# Altium footprint library Resistors_imp.PCBLIB: 12 footprints
Each footprint in its own frame and in the unit in brackets; x right, y up, seen from the top. Pads: shape width x height; smd on the part's side, far side on the other; paste and mask are expansions set on the pad; w line width, h text height; cw(c..) or ccw(c..) is an arc to the next point about the centre after c.
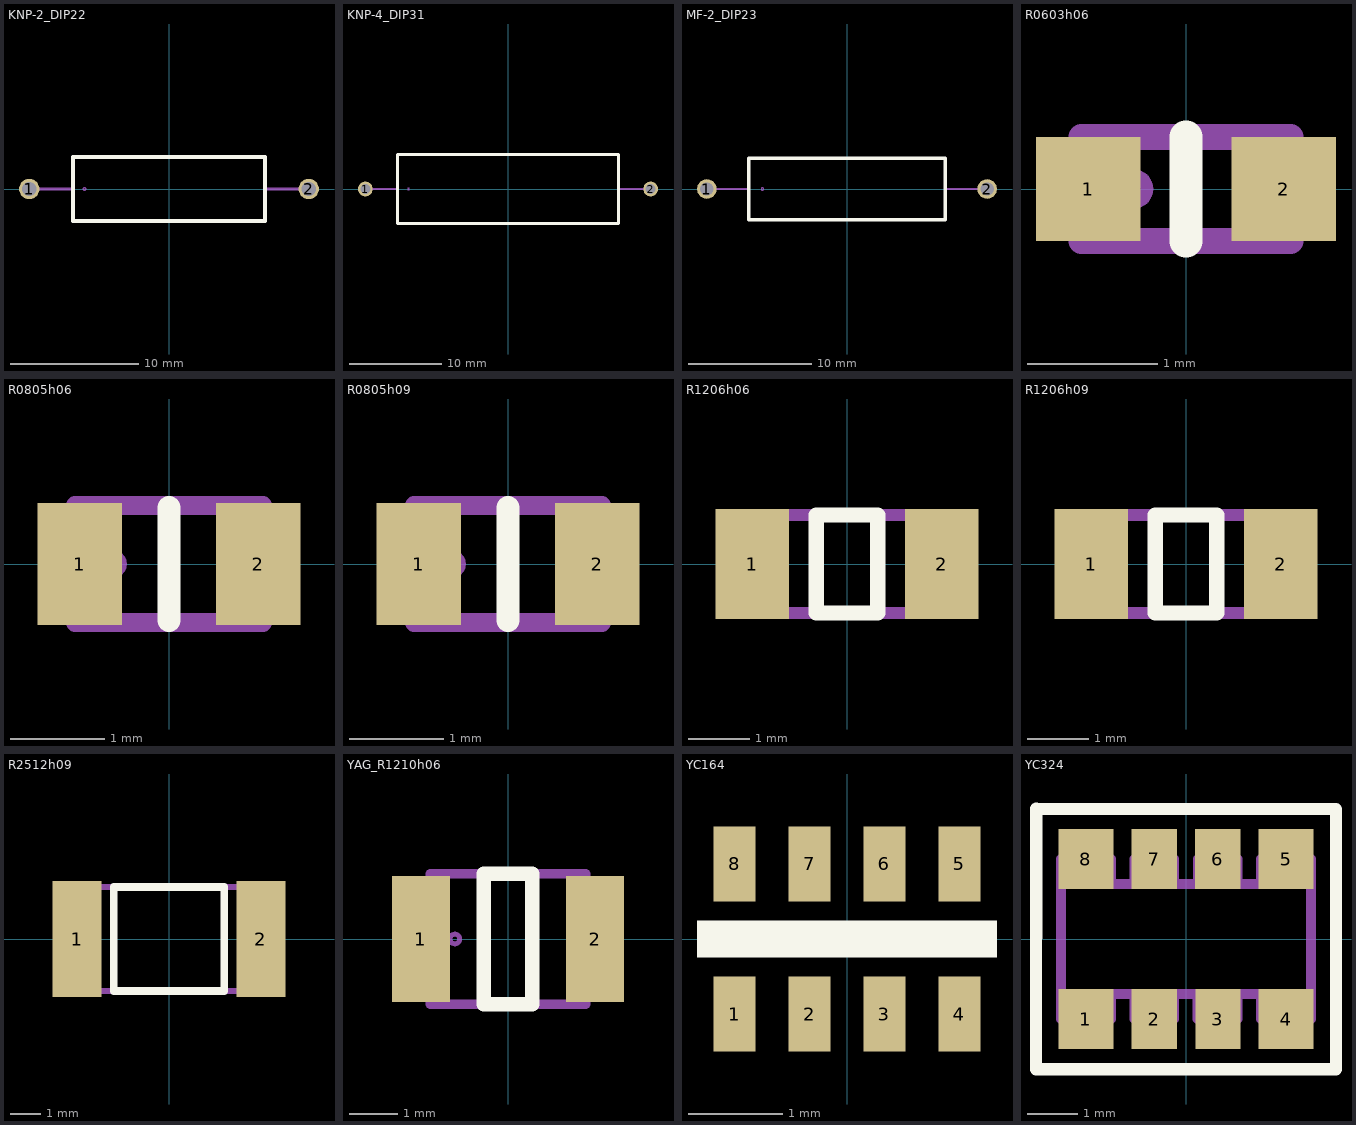
[diagram p0: the footprints below, top view; thin cyan lines are the x and y axes]

## KNP-2_DIP22 [mm]
height 5
pads (2):
  round 1.6 hole 1.1: 1(-10.922,0) 2(10.922,0)
Top Overlay:
  lines w0.3: -7.5,-2.5 7.5,-2.5 7.5,2.5 -7.5,2.5 -7.5,-2.5
Mechanical 1:
  circle w0.1: c-6.6,0 r0.1
  lines w0.2: -11,0 -7.5,0 ; 7.5,0 11,0 ; -7.5,-2.5 -7.5,2.5 7.5,2.5 7.5,-2.5 -7.5,-2.5
  text ".Designator" at -2.5,0 h1.5
3D body "KNP-2.STEP": height 5, standoff -2.5, extent -11.4,-2.5 11.4,2.5

## KNP-4_DIP31 [mm]
height 7.5
pads (2):
  round 1.6 hole 1.1: 1(-15.494,0) 2(15.494,0)
Top Overlay:
  lines w0.3: -12,-3.75 12,-3.75 12,3.75 -12,3.75 -12,-3.75
Mechanical 1:
  circle w0.1: c-10.8,0 r0.1
  lines w0.2: -15.5,0 -12,0 ; 12,0 15.5,0 ; -12,-3.75 -12,3.75 12,3.75 12,-3.75 -12,-3.75
  text ".Designator" at -2.5,0 h1.5
3D body "KNP-4.STEP": height 7.5, standoff -1.25, extent -15.9,-3.75 15.9,3.75

## MF-2_DIP23 [mm]
height 5
pads (2):
  round 1.6 hole 1.1: 1(-11.43,0) 2(11.43,0)
Top Overlay:
  lines w0.3: -8,-2.5 8,-2.5 8,2.5 -8,2.5 -8,-2.5
Mechanical 1:
  circle w0.1: c-6.9,0 r0.1
  lines w0.2: -11.5,0 -8,0 ; 8,0 11.5,0 ; -8,-2.5 -8,2.5 8,2.5 8,-2.5 -8,-2.5
  text ".Designator" at -2.5,0 h1.5
3D body "MF-2.STEP": height 5, standoff -2.5, extent -11.9,-2.5 11.9,2.5

## R0603h06 [mm]
height 0.6
pads (2):
  rect 0.8x0.8 smd: 1(-0.75,0) 2(0.75,0)
Top Overlay:
  lines w0.25: 0,-0.4 0,0.4
Mechanical 1:
  circle w0.1: c-0.4,0 r0.1
  lines w0.2: -0.8,-0.4 0.8,-0.4 0.8,0.4 -0.8,0.4 -0.8,-0.4
  text ".Designator" at -0.7,0.6 h1.5
3D body "R0603h06.stp": height 0.6, standoff 0, extent -0.85,-0.45 0.85,0.45

## R0805h06 [mm]
height 0.6
pads (2):
  rect 0.9x1.3 smd: 1(-0.95,0) 2(0.95,0)
Top Overlay:
  lines w0.25: 0,-0.6 0,0.6
Mechanical 1:
  circle w0.1: c-0.6,0 r0.1
  lines w0.2: -1,-0.625 -1,0.625 1,0.625 1,-0.625 -1,-0.625
  text ".Designator" at -0.9,1 h1.5
3D body "R0805h06.stp": height 0.6, standoff 0, extent -1.05,-0.675 1.05,0.675

## R0805h09 [mm]
height 0.9
pads (2):
  rect 0.9x1.3 smd: 1(-0.95,0) 2(0.95,0)
Top Overlay:
  lines w0.25: 0,-0.6 0,0.6
Mechanical 1:
  circle w0.1: c-0.6,0 r0.1
  lines w0.2: -1,-0.625 1,-0.625 1,0.625 -1,0.625 -1,-0.625
  text ".Designator" at -0.8,1 h1.5
3D body "R0805h09.stp": height 0.9, standoff 0, extent -1.05,-0.675 1.05,0.675

## R1206h06 [mm]
height 0.6
pads (2):
  rect 1.2x1.8 smd: 1(-1.55,0) 2(1.55,0)
Top Overlay:
  lines w0.25: -0.5,-0.8 0.5,-0.8 0.5,0.8 -0.5,0.8 -0.5,-0.8
Mechanical 1:
  circle w0.1: c-1.1,0 r0.1
  lines w0.2: -1.6,-0.8 1.6,-0.8 1.6,0.8 -1.6,0.8 -1.6,-0.8
  text ".Designator" at -1.4,1.2 h1.5
3D body "R1206h06.stp": height 0.6, standoff 0, extent -1.675,-0.9 1.675,0.9

## R1206h09 [mm]
height 0.9
pads (2):
  rect 1.2x1.8 smd: 1(-1.55,0) 2(1.55,0)
Top Overlay:
  lines w0.25: -0.5,-0.8 0.5,-0.8 0.5,0.8 -0.5,0.8 -0.5,-0.8
Mechanical 1:
  circle w0.1: c-1.1,0 r0.1
  lines w0.2: -1.6,-0.8 1.6,-0.8 1.6,0.8 -1.6,0.8 -1.6,-0.8
  text ".Designator" at -1.2,1.2 h1.5
3D body "R1206h09.stp": height 0.9, standoff 0, extent -1.675,-0.9 1.675,0.9

## R2512h09 [mm]
height 0.9
pads (2):
  rect 1.6x3.8 smd: 1(-3,0) 2(3,0)
Top Overlay:
  lines w0.25: -1.8,-1.7 1.8,-1.7 1.8,1.7 -1.8,1.7 -1.8,-1.7
Mechanical 1:
  circle w0.1: c-2.6,0 r0.1
  lines w0.2: -3.3,-1.7 -3.3,1.7 3.3,1.7 3.3,-1.7 -3.3,-1.7
  text ".Designator" at -1.4,2.4 h1.5
3D body "R2512h09.stp": height 0.9, standoff 0, extent -3.3,-1.7 3.3,1.7

## YAG_R1210h06 [mm]
height 0.6
pads (2):
  rect 1.2x2.6 smd: 1(-1.8,0) 2(1.8,0)
Top Overlay:
  lines w0.3: -0.5,-1.35 0.5,-1.35 0.5,1.35 -0.5,1.35 -0.5,-1.35
Mechanical 1:
  circle w0.1: c-1.1,0 r0.1
  lines w0.2: -1.6,-1.35 1.6,-1.35 1.6,1.35 -1.6,1.35 -1.6,-1.35
  text ".Designator" at -1.4,1.6 h1.5
3D body "R1206h06.stp": height 0.6, standoff 0, extent -1.675,-0.9 1.675,0.9

## YC164 [mm]
pads (8):
  rect 0.45x0.8 smd: 1(-1.2,-0.8) 2(-0.4,-0.8) 3(0.4,-0.8) 4(1.2,-0.8) 5(1.2,0.8) 6(0.4,0.8) 7(-0.4,0.8) 8(-1.2,0.8)
Top Overlay:
  rectangle: -1.6,-0.2 1.6,0.2
3D body "User Library-RN164P.step": height 0.56, standoff 0.01, extent -1.6,-0.8 1.6,0.8

## YC324 [mm]
height 0.6
pads (8):
  rect 1.1x1.2 smd: 1(-2,-1.6) 4(2,-1.6) 5(2,1.6) 8(-2,1.6)
  rect 0.9x1.2 smd: 2(-0.635,-1.6) 3(0.635,-1.6) 6(0.635,1.6) 7(-0.635,1.6)
Top Overlay:
  lines w0.25: -3,-2.6 3,-2.6 3,2.6 -3,2.6 -3,-2.6
Mechanical 1:
  lines w0.2: -2.5,-1.6 -2.5,1.6 -1.5,1.6 -1.5,1.1 -1.035,1.1 -1.035,1.6 -0.235,1.6 -0.235,1.1 0.235,1.1 0.235,1.6 1.035,1.6 1.035,1.1 1.5,1.1 1.5,1.6 2.5,1.6 2.5,-1.6 1.5,-1.6 1.5,-1.1 1.035,-1.1 1.035,-1.6 0.235,-1.6 0.235,-1.1 -0.235,-1.1 -0.235,-1.6 -1.035,-1.6 -1.035,-1.1 -1.5,-1.1 -1.5,-1.6 -2.5,-1.6
3D body "YC324.STEP": height 0.6, standoff 0, extent -2.54,-1.6 2.54,1.6